# EAGLE library part STM660X (library m_ic-power)
Smart push-button on/off controller with Smart ResetTM and power-on lockout Description The STM6600-01 devices monitor the state of connected push-button(s) as well as sufficient supply voltage. An enable output controls power for the application through the MOSFET transistor, DC-DC converter, regulator, etc. If the supply voltage is above a precise voltage threshold, the enable output can be asserted by a simple press of the button. Factory-selectable supply voltage thresholds are determined by highly accurate and temperature-compensated references. An interrupt is asserted by pressing the push-button during normal operation and can be used to request a system power-down. The interrupt is also asserted if undervoltage is detected. By a long push of one button (PB) or two buttons (PB and SR) either a reset is asserted or power for the application is disabled depending on the option used. The device also offers additional features such as precise 1.5 V voltage reference with very tight accuracy of 1%, separate output indicating undervoltage detection and separate output for distinguishing between interrupt by push-button or undervoltage. The device consumes very low current of 6 μA during normal operation and only 0.6 μA current during standby. The STM6600-01 is available in the TDFN12 package and is offered in several options among features such as selectable threshold, hysteresis, timeouts, output types, etc. Features Operating voltage 1.6 V to 5.5 V Low standby current of 0.6 μA Adjustable Smart Reset™ assertion delay time driven by external CSRD Power-up duration determined primarily by push-button press (STM6600) or by fixed time period, tON_BLANK(STM6601) Debounced PB and SR inputs PB and SR ESD inputs withstand voltage up to ±15 kV (air discharge) ±8 kV (contact discharge) Active high or active low enable output option (EN or EN) provides control of MOSFET, DC-DC converter, regulator, etc. Secure startup, interrupt, Smart Reset™or power-down driven by push-button Precise 1.5 V voltage reference with 1% accuracy Industrial operating temperature –40 to +85 °C Available in TDFN12 2 x 3 mm package Datasheet link: https://www.st.com/resource/en/datasheet/stm6600.pdf Octopart Search <https://octopart.com/search?q=STM660%3F*DM6F> Added 2018-08-29
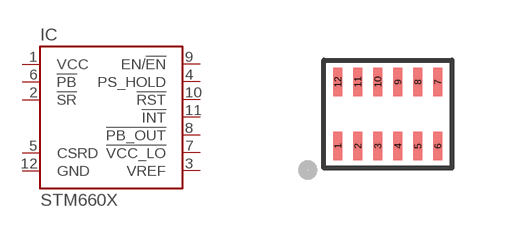
[diagram p12: symbol with the pads of TDFN12; footprint TDFN12]

Designator prefix IC

## STM660XDM (MANUF: ST; PARTNUM: STM660?*DM6F; VALUE: STM660X)  [TDFN12]
1  VCC  pas
2  !SR  pas
3  VREF  pas
4  PS_HOLD  pas
5  CSRD  pas
6  !PB  pas
7  !VCC_LO  pas
8  !PB_OUT  pas
9  EN/!EN  pas
10  !RST  pas
11  !INT  pas
12  GND  pas

## Footprint TDFN12 (pad centres in mm)
ST TDFM12 (2 x 3 mm) SMT package Based on data from ST drawing 8070542_A and AM07332 Added 2018-08-28
smd 0.25 x 0.7: 1 -1.25,-0.8; 2 -0.75,-0.8; 3 -0.25,-0.8; 4 0.25,-0.8; 5 0.75,-0.8; 6 1.25,-0.8; 7 1.25,0.8; 8 0.75,0.8; 9 0.25,0.8; 10 -0.25,0.8; 11 -0.75,0.8; 12 -1.25,0.8